# EAGLE library part HC-05 (library HC-05)
HC-05 Bluetooth module, range 10m
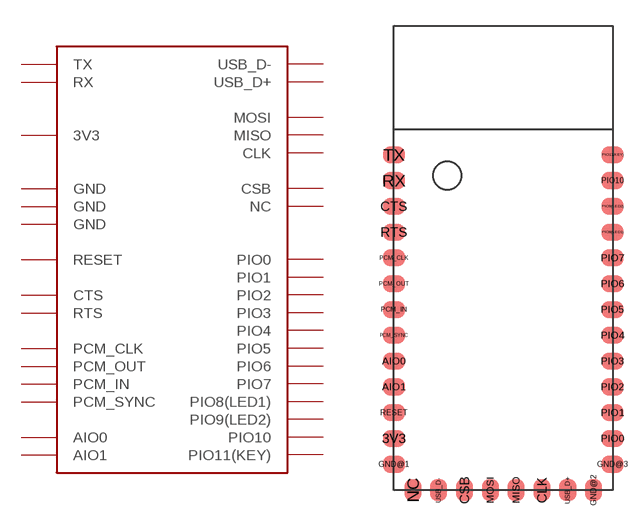
[diagram p0: symbol with the pads of HC-05; footprint HC-05]

Designator prefix IC

## HC-05  [HC-05]
3V3  3V3  pwr
AIO0  AIO0
AIO1  AIO1
CLK  CLK
CSB  CSB
CTS  CTS
GND@1  GND  pwr
GND@2  GND  pwr
GND@3  GND  pwr
MISO  MISO  in
MOSI  MOSI  out
NC  NC  nc
PCM_CLK  PCM_CLK
PCM_IN  PCM_IN
PCM_OUT  PCM_OUT
PCM_SYNC  PCM_SYNC
PIO0  PIO0
PIO1  PIO1
PIO2  PIO2
PIO3  PIO3
PIO4  PIO4
PIO5  PIO5
PIO6  PIO6
PIO7  PIO7
PIO8(LED1)  PIO8(LED1)
PIO9(LED2)  PIO9(LED2)
PIO10  PIO10
PIO11(KEY)  PIO11(KEY)
RESET  RESET
RTS  RTS
RX  RX  in
TX  TX  out
USB_D+  USB_D+
USB_D-  USB_D-

## Footprint HC-05 (pad centres in mm)
smd 1.27 x 1: 3V3 0,-24; AIO0 0,-19.5; AIO1 0,-21; CTS 0,-10.5; GND@1 0,-25.5; GND@3 12.7,-25.5; PCM_CLK 0,-13.5; PCM_IN 0,-16.5; PCM_OUT 0,-15; PCM_SYNC 0,-18; PIO0 12.7,-24; PIO1 12.7,-22.5; PIO2 12.7,-21; PIO3 12.7,-19.5; PIO4 12.7,-18; PIO5 12.7,-16.5; PIO6 12.7,-15; PIO7 12.7,-13.5; PIO8(LED1) 12.7,-12; PIO9(LED2) 12.7,-10.5; PIO10 12.7,-9; PIO11(KEY) 12.7,-7.5; RESET 0,-22.5; RTS 0,-12; RX 0,-9; TX 0,-7.5
smd 1 x 1.27: CLK 8.6,-27; CSB 4.1,-27; GND@2 11.6,-27; MISO 7.1,-27; MOSI 5.6,-27; NC 1.1,-27; USB_D+ 10.1,-27; USB_D- 2.6,-27